# EAGLE library part 6871XX149022_687130149022 (library WR-FPC)
WR-FPC 0.50 mm SMT ZIF Horizontal - Bottom Contact KIND PROPERTIES Pitch 0.5 mm MATERIAL PROPERTIES Insulator Material PA6T Contact Material Phosphor Bronze Contact Plating 120 (µ") Tin over 50 (µ") Nickel Contact Type Stamped Solder Tabs Brass <https://www.we-online.com/catalog/media/o32848v209%20Family_Con_FPC_ZIF_050_6871xx149022.jpg> Details see: https://www.we-online.com/catalog/en/FPC_0_5_SMT_ZIF_HORIZONTAL_BUTTOM_CONTACT_6871XX149022/ Updated by Ella Wu 2020-08-26 2020(C) Wurth Elektronik
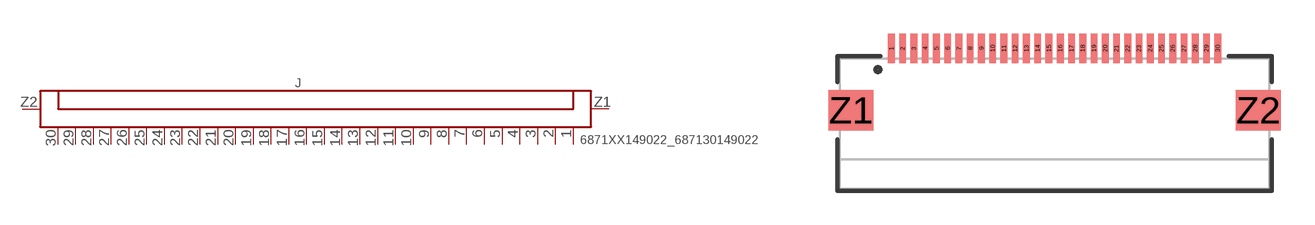
[diagram p45: symbol with the pads of 687130149022; footprint 687130149022]

Designator prefix J

## 6871XX149022_687130149022 (CONTACT-RESISTANCE: 50mOhm; DATASHEET-URL: https://www.we-online.com/redexpert/spec/687130149022?ae; IR: 0.5A; L: 19.1mm; PACKAGING: Tape and Reel; PART-NUMBER: 687130149022; PINS: 30; PITCH: 0.5mm; TYPE: Horizontal; VALUE: 687130149022; WORKING-VOLTAGE: 50V(AC))  [687130149022]
1  1  pas
2  2  pas
3  3  pas
4  4  pas
5  5  pas
6  6  pas
7  7  pas
8  8  pas
9  9  pas
10  10  pas
11  11  pas
12  12  pas
13  13  pas
14  14  pas
15  15  pas
16  16  pas
17  17  pas
18  18  pas
19  19  pas
20  20  pas
21  21  pas
22  22  pas
23  23  pas
24  24  pas
25  25  pas
26  26  pas
27  27  pas
28  28  pas
29  29  pas
30  30  pas
Z1  Z1  pas
Z2  Z2  pas

## Footprint 687130149022 (pad centres in mm)
WR-FPC 0.50 mm SMT ZIF Horizontal - Bottom Contact ,30Pins
smd 0.3 x 1.3: 1 -7.25,3.35; 2 -6.75,3.35; 3 -6.25,3.35; 4 -5.75,3.35; 5 -5.25,3.35; 6 -4.75,3.35; 7 -4.25,3.35; 8 -3.75,3.35; 9 -3.25,3.35; 10 -2.75,3.35; 11 -2.25,3.35; 12 -1.75,3.35; 13 -1.25,3.35; 14 -0.75,3.35; 15 -0.25,3.35; 16 0.25,3.35; 17 0.75,3.35; 18 1.25,3.35; 19 1.75,3.35; 20 2.25,3.35; 21 2.75,3.35; 22 3.25,3.35; 23 3.75,3.35; 24 4.25,3.35; 25 4.75,3.35; 26 5.25,3.35; 27 5.75,3.35; 28 6.25,3.35; 29 6.75,3.35; 30 7.25,3.35
smd 2 x 1.8: Z1 -9.05,0.6; Z2 9.05,0.6